# EAGLE library part PCB_BMS (library EL_POTENCIA_LIBRERIA_VES2018)
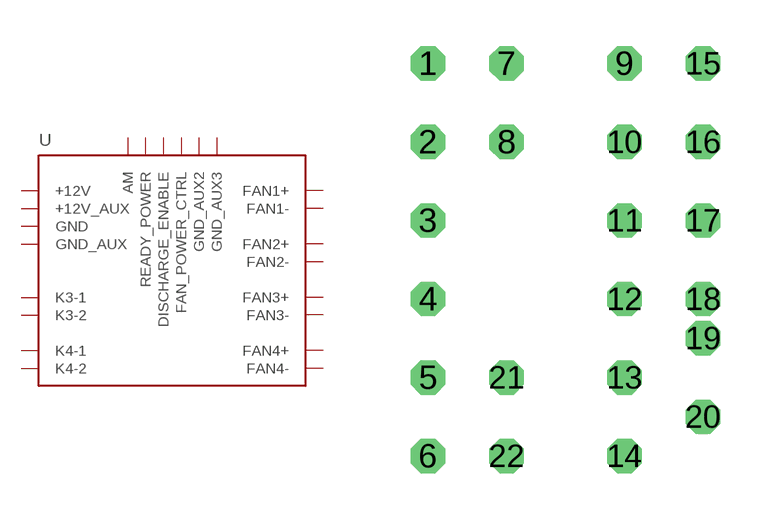
[diagram p14: symbol with the pads of PCB_BMS; footprint PCB_BMS]

Designator prefix -

## PCB_BMS  [PCB_BMS]
1  +12V
2  +12V_AUX
3  AM
4  DISCHARGE_ENABLE
5  FAN1+
6  FAN1-
7  FAN2+
8  FAN2-
9  FAN3+
10  FAN3-
11  FAN4+
12  FAN4-
13  FAN_POWER_CTRL
14  GND
15  GND_AUX
16  GND_AUX2
17  GND_AUX3
18  K3-1
19  K3-2
20  K4-1
21  K4-2
22  READY_POWER

## Footprint PCB_BMS (pad centres in mm)
drill 0.6 octagon: 1 -6.35,5.08; 2 -6.35,2.54; 3 -6.35,0; 4 -6.35,-2.54; 5 -6.35,-5.08; 6 -6.35,-7.62; 7 -3.81,5.08; 8 -3.81,2.54; 9 0,5.08; 10 0,2.54; 11 0,0; 12 0,-2.54; 13 0,-5.08; 14 0,-7.62; 15 2.54,5.08; 16 2.54,2.54; 17 2.54,0; 18 2.54,-2.54; 19 2.54,-3.81; 20 2.54,-6.35; 21 -3.81,-5.08; 22 -3.81,-7.62